# Altium schematic symbol library Res Bridge.Schlib: 1 symbol
Pins are listed as number, name and electrical type; pins without a type are passive.

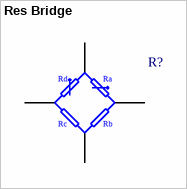
[diagram p0: symbol Res Bridge]

## Res Bridge
designator R?
Resistor Bridge
pins: 1, 2, 3, 4
text: Rd; Ra; Rc; Rb